# Altium footprint library 工控板PCB.PcbLib: 51 footprints (part 2 of 4)
Each footprint in its own frame and in the unit in brackets; x right, y up, seen from the top. Pads: shape width x height; smd on the part's side, far side on the other; paste and mask are expansions set on the pad; w line width, h text height; cw(c..) or ccw(c..) is an arc to the next point about the centre after c.
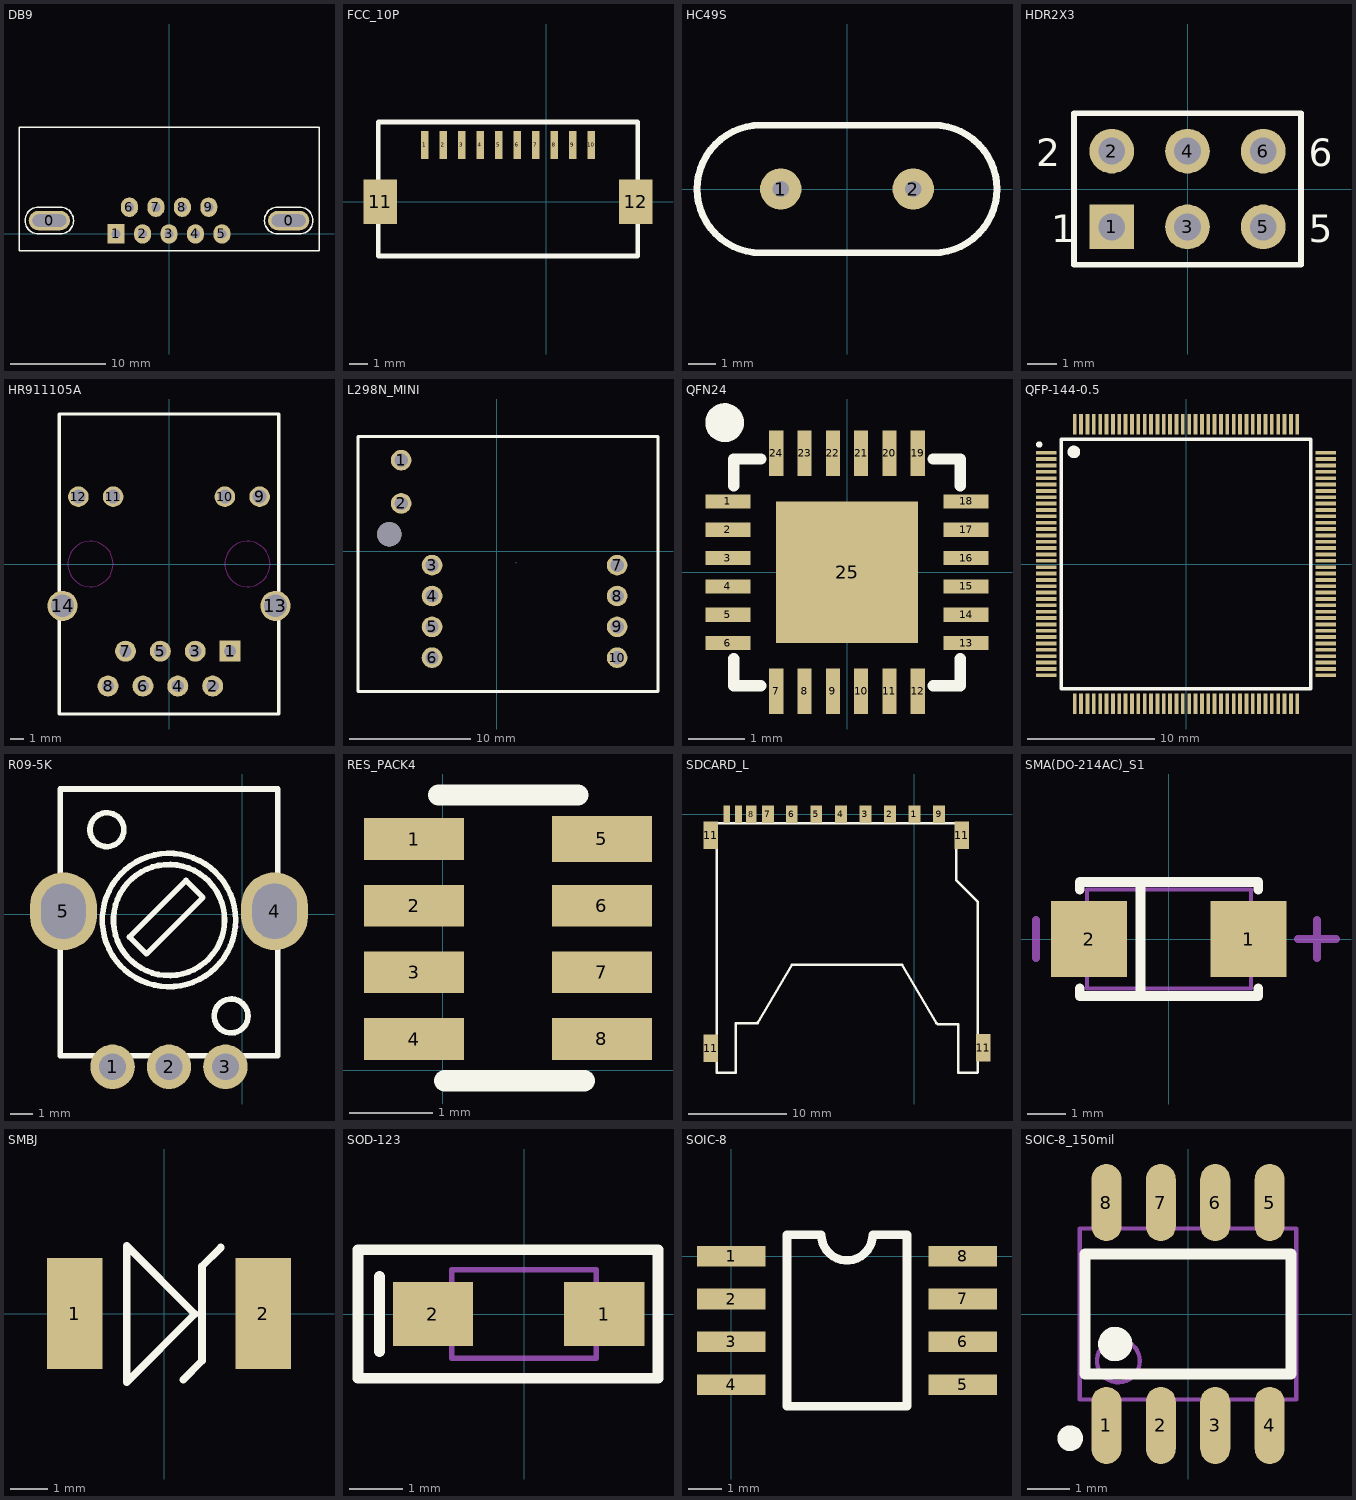
[diagram p1: the footprints below, top view; thin cyan lines are the x and y axes]

## DB9 [mil]
pads (11):
  oval 170x80 hole 50 slot 140 at 0 deg: 0(-493,55) 0(493,55)
  rect 70x80 hole 38: 1(-218,0)
  oval 70x80 hole 38: 2(-109,0) 3(0,0) 4(109,0) 5(218,0) 6(-163,110) 7(-54,110) 8(55,110) 9(164,110)
Top Overlay:
  lines w6: -618,-70 618,-70 618,440 -618,440 -618,-70 ; -538,0 cw(c-538,55) -538,110 -448,110 cw(c-448,55) -448,0 -538,0 ; 448,0 cw(c448,55) 448,110 538,110 cw(c538,55) 538,0 448,0

## FCC_10P [mil]
pads (12):
  rect 15.7x59 smd: 1(-258.76,120.95) 3(-180.06,120.95) 4(-140.66,120.95) 6(-61.96,120.95) 7(-22.56,120.95) 10(95.54,120.95)
  rect 15.8x59 smd: 2(-219.41,120.95) 5(-101.31,120.95) 8(16.79,120.95) 9(56.19,120.95)
  rect 70.8x94.5 smd: 11(-353.21,0)
  rect 70.9x94.5 smd: 12(190,0)
Top Overlay:
  lines w10: -357.12,-115.25 -357.12,170 193.97,170 193.97,-115.25 -357.12,-115.25

## HC49S [mm] "CRYSTAL"
height 4.2
pads (2):
  round 1.524 hole 0.6: 1(-2.44,0) 2(2.44,0)
Top Overlay:
  lines w0.254: -3.175,-2.35 cw(c-3.175,0) -3.175,2.35 3.175,2.35 cw(c3.175,0) 3.175,-2.35 -3.175,-2.35
3D body "HC49S.STEP": height 3.6, standoff -3, extent -5.49,-2.245 5.49,2.246

## HDR2X3 [mm] "Connector; Header; 3x2 Position"
pads (6):
  rect 1.5x1.5 hole 0.9: 1(-2.54,-1.27)
  round 1.5 hole 0.9: 2(-2.54,1.27) 3(0,-1.27) 4(0,1.27) 5(2.54,-1.27) 6(2.54,1.27)
Top Overlay:
  lines w0.2: -1.058,-2.54 3.81,-2.54 ; 3.81,-2.54 3.81,2.54 -3.81,2.54 -3.81,-2.54 3.81,-2.54
  text "6" at 4.064,0.762 h0.91
  text "5" at 4.064,-1.778 h0.91
  text "2" at -5.08,0.762 h0.91
  text "1" at -4.572,-1.778 h0.91
3D body "HDR1X3.step": height 8.38, standoff -3.81, extent -3.81,-2.54 3.81,0
3D body "HDR1X3.step": height 8.38, standoff -3.81, extent -3.81,0 3.81,2.54

## HR911105A [mm]
pads (14):
  rect 1.524x1.524 hole 0.889: 1(4.45,-6.35)
  round 1.524 hole 0.889: 2(3.18,-8.89) 3(1.91,-6.35) 4(0.64,-8.89) 5(-0.63,-6.35) 6(-1.9,-8.89) 7(-3.17,-6.35) 8(-4.44,-8.89)
  round 1.5 hole 1.02: 9(6.6,4.9) 10(4.064,4.9) 11(-4.064,4.9) 12(-6.6,4.9)
  round 2.2 hole 1.65: 13(7.75,-3.048) 14(-7.75,-3.048)
Top Overlay:
  lines w0.254: -8,-10.922 -8,10.922 0,10.922 8,10.922 8,-10.922 0,-10.922 -8,-10.922
Keep-Out Layer:
  circle w0.051: c-5.714,0 r1.65
  circle w0.051: c5.716,0 r1.65

## L298N_MINI [mm]
pads (11):
  round 1.7 hole 1.1: 1(-7.875,7.488) 2(-7.875,3.928) 3(-5.335,-1.152) 4(-5.335,-3.692) 5(-5.335,-6.232) 6(-5.335,-8.772) 7(9.905,-1.152) 8(9.905,-3.692) 9(9.905,-6.232) 10(9.905,-8.772)
  round 2 hole 2 unplated: ""(-8.851,1.389)
Top Overlay:
  lines w0.254: -11.43,-11.557 13.27,-11.557 13.27,9.443 -11.43,9.443 -11.43,-11.557
Mechanical 15:
  lines w0.003: 1.53,-0.955 1.58,-0.905

## QFN24 [mm]
pads (25):
  rect 0.8x0.25 smd: 1(-2.101,1.25) 2(-2.101,0.75) 3(-2.101,0.25) 4(-2.101,-0.25) 5(-2.101,-0.75) 6(-2.101,-1.25) 13(2.101,-1.25) 14(2.101,-0.75) 15(2.101,-0.25) 16(2.101,0.25) 17(2.101,0.75) 18(2.101,1.25)
  rect 0.25x0.8 smd: 7(-1.25,-2.101) 8(-0.75,-2.101) 9(-0.25,-2.101) 10(0.25,-2.101) 11(0.75,-2.101) 12(1.25,-2.101) 19(1.25,2.101) 20(0.75,2.101) 21(0.25,2.101) 22(-0.25,2.101) 23(-0.75,2.101) 24(-1.25,2.101)
  rect 2.5x2.5 smd: 25(0,0)
Top Overlay:
  circle w0.381: c-2.159,2.642 r0.152
  lines w0.2: -2,-1.525 -2,-2 -1.525,-2 ; -2,1.525 -2,2 -1.525,2 ; 1.525,-2 2,-2 2,-1.525 ; 1.525,2 2,2 2,1.525

## QFP-144-0.5 [mm] "QFP-144"
height 1.6
pads (144):
  rect 1.6x0.3 smd: 1(-11,8.75) 2(-11,8.25) 3(-11,7.75) 4(-11,7.25) 5(-11,6.75) 6(-11,6.25) 7(-11,5.75) 8(-11,5.25) 9(-11,4.75) 10(-11,4.25) 11(-11,3.75) 12(-11,3.25) 13(-11,2.75) 14(-11,2.25) 15(-11,1.75) 16(-11,1.25) 17(-11,0.75) 18(-11,0.25) 19(-11,-0.25) 20(-11,-0.75) 21(-11,-1.25) 22(-11,-1.75) 23(-11,-2.25) 24(-11,-2.75) 25(-11,-3.25) 26(-11,-3.75) 27(-11,-4.25) 28(-11,-4.75) 29(-11,-5.25) 30(-11,-5.75) 31(-11,-6.25) 32(-11,-6.75) 33(-11,-7.25) 34(-11,-7.75) 35(-11,-8.25) 36(-11,-8.75) 73(11,-8.75) 74(11,-8.25) 75(11,-7.75) 76(11,-7.25) 77(11,-6.75) 78(11,-6.25) 79(11,-5.75) 80(11,-5.25) 81(11,-4.75) 82(11,-4.25) 83(11,-3.75) 84(11,-3.25) 85(11,-2.75) 86(11,-2.25) 87(11,-1.75) 88(11,-1.25) 89(11,-0.75) 90(11,-0.25) 91(11,0.25) 92(11,0.75) 93(11,1.25) 94(11,1.75) 95(11,2.25) 96(11,2.75) 97(11,3.25) 98(11,3.75) 99(11,4.25) 100(11,4.75) 101(11,5.25) 102(11,5.75) 103(11,6.25) 104(11,6.75) 105(11,7.25) 106(11,7.75) 107(11,8.25) 108(11,8.75)
  rect 0.3x1.6 smd: 37(-8.75,-11) 38(-8.25,-11) 39(-7.75,-11) 40(-7.25,-11) 41(-6.75,-11) 42(-6.25,-11) 43(-5.75,-11) 44(-5.25,-11) 45(-4.75,-11) 46(-4.25,-11) 47(-3.75,-11) 48(-3.25,-11) 49(-2.75,-11) 50(-2.25,-11) 51(-1.75,-11) 52(-1.25,-11) 53(-0.75,-11) 54(-0.25,-11) 55(0.25,-11) 56(0.75,-11) 57(1.25,-11) 58(1.75,-11) 59(2.25,-11) 60(2.75,-11) 61(3.25,-11) 62(3.75,-11) 63(4.25,-11) 64(4.75,-11) 65(5.25,-11) 66(5.75,-11) 67(6.25,-11) 68(6.75,-11) 69(7.25,-11) 70(7.75,-11) 71(8.25,-11) 72(8.75,-11) 109(8.75,11) 110(8.25,11) 111(7.75,11) 112(7.25,11) 113(6.75,11) 114(6.25,11) 115(5.75,11) 116(5.25,11) 117(4.75,11) 118(4.25,11) 119(3.75,11) 120(3.25,11) 121(2.75,11) 122(2.25,11) 123(1.75,11) 124(1.25,11) 125(0.75,11) 126(0.25,11) 127(-0.25,11) 128(-0.75,11) 129(-1.25,11) 130(-1.75,11) 131(-2.25,11) 132(-2.75,11) 133(-3.25,11) 134(-3.75,11) 135(-4.25,11) 136(-4.75,11) 137(-5.25,11) 138(-5.75,11) 139(-6.25,11) 140(-6.75,11) 141(-7.25,11) 142(-7.75,11) 143(-8.25,11) 144(-8.75,11)
Top Overlay:
  circle w0.254: c-11.55,9.4 r0.127
  circle w0.5: c-8.82,8.82 r0.25
  lines w0.254: -9.82,-9.82 9.82,-9.82 9.82,9.82 -9.82,9.82 -9.82,-9.82
3D body "TQFP-144.STEP": height 1.65, standoff 0, extent -11,-11 11,11

## R09-5K [mm]
pads (5):
  round 2 hole 1.2: 1(-5.842,-6.858) 2(-3.302,-6.858) 3(-0.762,-6.858)
  oval 3x3.499 hole 2 slot 2.5 at 90 deg copper offset 0,0: 4(1.448,0.142) 5(-8.052,0.142)
Top Overlay:
  circle w0.254: c-6.096,3.81 r0.762
  circle w0.254: c-0.508,-4.572 r0.762
  circle w0.254: c-3.302,-0.254 r3
  circle w0.254: c-3.302,-0.254 r2.5
  lines w0.254: -8.202,-6.358 -8.202,5.642 1.598,5.642 1.598,-6.358 -8.202,-6.358 ; -5.08,-1.016 -2.54,1.524 -1.778,0.762 -4.318,-1.778 -5.08,-1.016
Mechanical 15:
  lines w0.003: -0.19,-0.571 -0.14,-0.521

## RES_PACK4 [mm]
pads (8):
  rect 1.2x0.5 smd: 1(-0.341,2.775) 2(-0.341,1.975) 3(-0.341,1.175) 4(-0.341,0.375) 6(1.91,1.975) 7(1.91,1.175) 8(1.91,0.375)
  rect 1.2x0.55 smd: 5(1.91,2.775)
Top Overlay:
  lines w0.254: -0.051,3.302 1.624,3.302 ; 0.025,-0.127 1.7,-0.127

## SDCARD_L [mm]
pads (15):
  rect 1.2x1.8 smd: 1(0,0) 2(-2.489,0) 3(-4.983,-0.009) 4(-7.483,-0.009) 5(-9.983,-0.009) 6(-12.483,-0.009) 7(-14.908,-0.009) 9(2.517,-0.009)
  rect 1.1x1.8 smd: 8(-16.612,0)
  rect 0.7x1.8 smd: 10(-17.908,-0.009) 12(-19.101,0)
  rect 1.5x2.8 smd: 11(-20.726,-23.834) 11(-20.726,-2.143) 11(4.826,-2.143) 11(7.01,-23.784)
Top Overlay:
  lines w0.254: -18.158,-21.3 -18.158,-26.3 -20.131,-26.3 -20.131,-0.914 -20.117,-0.9 4.242,-0.9 4.242,-6.71 6.431,-8.899 6.442,-8.899 6.442,-26.273 6.415,-26.3 4.442,-26.3 4.442,-21.402 2.4,-21.402 2.242,-21.244 ; -18.107,-21.294 -16.065,-21.294 -15.907,-21.136 ; -15.958,-21.294 -12.446,-15.3 ; -12.458,-15.3 -1.258,-15.3 2.242,-21.294

## SMA(DO-214AC)_S1 [mm]
pads (2):
  rect 2x2 smd: 1(2.1,0) 2(-2.1,0)
Top Overlay:
  lines w0.254: -2.35,-1.3 -2.35,-1.5 2.35,-1.5 2.35,-1.3 ; -2.35,1.3 -2.35,1.5 2.35,1.5 2.35,1.3 ; -0.75,-1.5 -0.75,1.5
Mechanical 13:
  lines w0.1: -2.16,-1.3 2.16,-1.3 2.16,1.3 -2.16,1.3 -2.16,-1.3
Mechanical 15:
  lines w0.203: -3.5,-0.5 -3.5,0.5 ; 3.4,0 4.4,0 ; 3.9,-0.5 3.9,0.5

## SMBJ [mm]
pads (2):
  rect 1.5x3 smd: 1(-2.413,0) 2(2.667,0)
Top Overlay:
  lines w0.203: 0.508,-1.778 1.016,-1.27 1.016,1.27 1.524,1.778 ; -1.016,-1.854 -1.016,1.829 0.826,-0.013 -1.016,-1.854

## SOD-123 [mm]
pads (2):
  rect 1.5x1.2 smd: 1(1.5,0) 2(-1.7,0)
Top Overlay:
  lines w0.2: -2.7,-0.7 -2.7,0.7 ; -3.1,-1.2 -3.1,1.2 2.5,1.2 2.5,-1.2 -3.1,-1.2
Mechanical 13:
  lines w0.1: -1.35,-0.825 1.35,-0.825 1.35,0.825 -1.35,0.825 -1.35,-0.825
3D body "SOD123.STEP": height 1.35, standoff 0, extent -1.85,-0.775 1.85,0.775

## SOIC-8 [mil]
pads (8):
  rect 80x24 smd: 1(0,0) 2(0,-50.06) 3(0,-100.06) 4(0,-150.06) 5(270,-150) 6(270,-100) 7(270,-50) 8(270,0)
Top Overlay:
  lines w10: 75,24.94 75.06,25 105,25 ccw(c135,25) 165,25 204.94,25 205,24.94 205,-175.06 65,-175.06 65,24.94 95,24.94

## SOIC-8_150mil [mm]
pads (8):
  oval 0.7x1.8 smd: 1(-1.905,-2.6) 2(-0.635,-2.6) 3(0.635,-2.6) 4(1.905,-2.6) 5(1.905,2.6) 6(0.635,2.6) 7(-0.635,2.6) 8(-1.905,2.6)
Top Overlay:
  circle w0.3: c-2.75,-2.9 r0.15
  circle w0.4: c-1.7,-0.7 r0.2
  lines w0.254: -2.4,-1.4 2.4,-1.4 2.4,1.4 -2.4,1.4 -2.4,-1.4
Mechanical 13:
  circle w0.1: c-1.625,-1.095 r0.5
  lines w0.1: -2.525,-1.995 2.525,-1.995 2.525,1.995 -2.525,1.995 -2.525,-1.995